# Altium integrated library WP-SHFU.intlib: 7 symbols
Pins are listed as number, name and electrical type; pins without a type are passive.

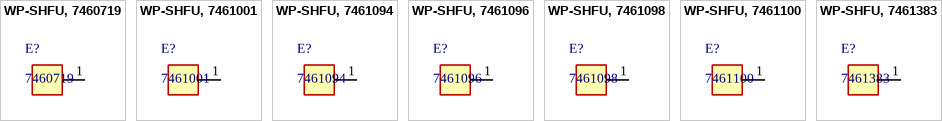
[diagram p0: symbols WP-SHFU, 7460719 to WP-SHFU, 7461383]

## WP-SHFU, 7460719
designator E?, comment 7460719
WP-SHFU Shanks with Full Plain Pin Plate, M8, thread 13mm; Manufacturer: Wurth Elektronik; partNo: 7460719; ComponentLink1Description: Manufacturer; ComponentLink1URL: http://www.we-online.de; Created by: Baojun Chen; Created Date: Dec.2015; ComponentLink2Description: Datasheet; ComponentLink2URL: http://katalog.we-online.de/em/datasheet/7460719.pdf
footprint 7460719_Chemical Surface (M8, thread 13mm)
footprint 7460719_HAL Surface (M8, thread 13mm)
pins: 1

## WP-SHFU, 7461001
designator E?, comment 7461001
WP-SHFU Shanks with Full Plain Pin Plate, M5, thread 8mm; Manufacturer: Wurth Elektronik; partNo: 7461001; ComponentLink1Description: Manufacturer; ComponentLink1URL: http://www.we-online.de; Created by: Baojun Chen; Created Date: Dec.2015; ComponentLink2Description: Datasheet; ComponentLink2URL: http://katalog.we-online.de/em/datasheet/7461001.pdf
footprint 7461001_Chemical Surface (M5, thread 8mm)
footprint 7461001_HAL Surface (M5, thread 8mm)
pins: 1

## WP-SHFU, 7461094
designator E?, comment 7461094
WP-SHFU Shanks with Full Plain Pin Plate, M3, thread 5mm; Manufacturer: Wurth Elektronik; partNo: 7461094; ComponentLink1Description: Manufacturer; ComponentLink1URL: http://www.we-online.de; Created by: Baojun Chen; Created Date: Dec.2015; ComponentLink2Description: Datasheet; ComponentLink2URL: http://katalog.we-online.de/em/datasheet/7461094.pdf
footprint 7461094_Chemical Surface (M3, thread 5mm)
footprint 7461094_HAL Surface (M3, thread 5mm)
pins: 1

## WP-SHFU, 7461096
designator E?, comment 7461096
WP-SHFU Shanks with Full Plain Pin Plate, M4, thread 6mm; Manufacturer: Wurth Elektronik; partNo: 7461096; ComponentLink1Description: Manufacturer; ComponentLink1URL: http://www.we-online.de; Created by: Baojun Chen; Created Date: Dec.2015; ComponentLink2Description: Datasheet; ComponentLink2URL: http://katalog.we-online.de/em/datasheet/7461096.pdf
footprint 7461096_Chemical Surface (M4, thread 6mm)
footprint 7461096_HAL Surface (M4, thread 6mm)
pins: 1

## WP-SHFU, 7461098
designator E?, comment 7461098
WP-SHFU Shanks with Full Plain Pin Plate, M6, thread 10mm; Manufacturer: Wurth Elektronik; partNo: 7461098; ComponentLink1Description: Manufacturer; ComponentLink1URL: http://www.we-online.de; Created by: Baojun Chen; Created Date: Dec.2015; ComponentLink2Description: Datasheet; ComponentLink2URL: http://katalog.we-online.de/em/datasheet/7461098.pdf
footprint 7461098_Chemical Surface (M6, thread 10mm)
footprint 7461098_HAL Surface (M6, thread 10mm)
pins: 1

## WP-SHFU, 7461100
designator E?, comment 7461100
WP-SHFU Shanks with Full Plain Pin Plate, M10, thread 16mm; Manufacturer: Wurth Elektronik; partNo: 7461100; ComponentLink1Description: Manufacturer; ComponentLink1URL: http://www.we-online.de; Created by: Baojun Chen; Created Date: Dec.2015; ComponentLink2Description: Datasheet; ComponentLink2URL: http://katalog.we-online.de/em/datasheet/7461100.pdf
footprint 7461100_Chemical Surface (M10, thread 16mm)
footprint 7461100_HAL Surface (M10, thread 16mm)
pins: 1

## WP-SHFU, 7461383
designator E?, comment 7461383
WP-SHFU Shanks with Full Plain Pin Plate, M5, thread 8mm; Manufacturer: Wurth Elektronik; partNo: 7461383; ComponentLink1Description: Manufacturer; ComponentLink1URL: http://www.we-online.de; Created by: Baojun Chen; Created Date: Dec.2015; ComponentLink2Description: Datasheet; ComponentLink2URL: http://katalog.we-online.de/em/datasheet/7461383.pdf
footprint 7461383_Chemical Surface (M5, thread 8mm)
footprint 7461383_HAL Surface (M5, thread 8mm)
pins: 1